# Altium footprint library CAP_TANT_D_KEMET.PcbLib: 1 footprints
Each footprint in its own frame and in the unit in brackets; x right, y up, seen from the top. Pads: shape width x height; smd on the part's side, far side on the other; paste and mask are expansions set on the pad; w line width, h text height; cw(c..) or ccw(c..) is an arc to the next point about the centre after c.
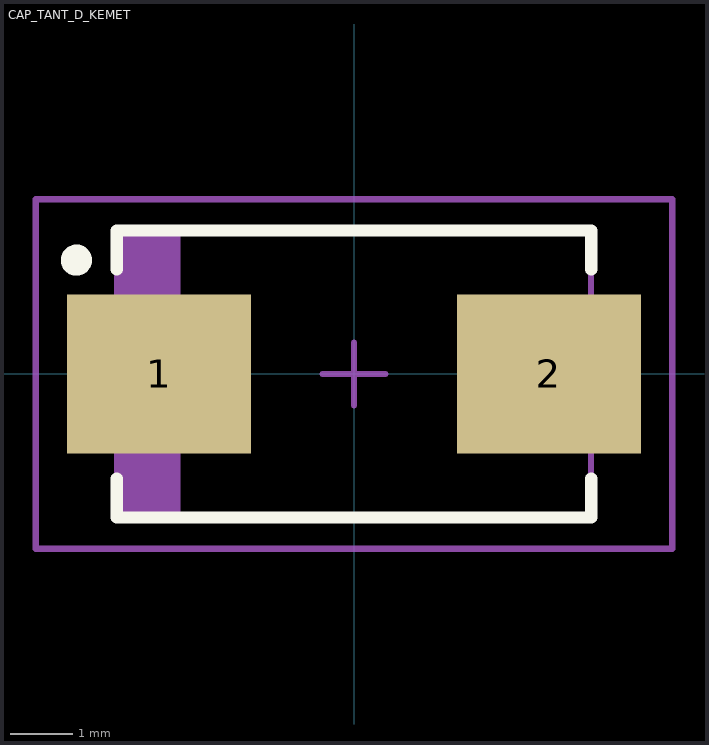
[diagram p0: the footprint, top view; thin cyan lines are the x and y axes]

## CAP_TANT_D_KEMET [mm]
height 3.1
pads (2):
  rect 2.95x2.55 smd: 1(-3.125,0) 2(3.125,0)
Top Overlay:
  circle w0.25: c-4.45,1.825 r0.125
  lines w0.2: -3.8,-1.675 -3.8,-2.3 3.8,-2.3 3.8,-1.675 ; -3.8,1.675 -3.8,2.3 3.8,2.3 3.8,1.675
Mechanical 13:
  rectangle: -3.8,-2.3 -2.778,2.3
  lines w0.1: -3.8,-2.3 -3.8,2.3 3.8,2.3 3.8,-2.3 -3.8,-2.3
Mechanical 15:
  lines w0.1: -0.5,0 0.5,0 ; 0,-0.5 0,0.5 ; -5.1,-2.8 -5.1,2.8 5.1,2.8 5.1,-2.8 -5.1,-2.8
3D body: height 2.8, standoff 0, extent -3.65,-2.15 3.65,2.15